# Altium schematic symbol library SAM3X-EK_REVB_Library.SchLib: 99 symbols
Pins are listed as number, name and electrical type; pins without a type are passive.

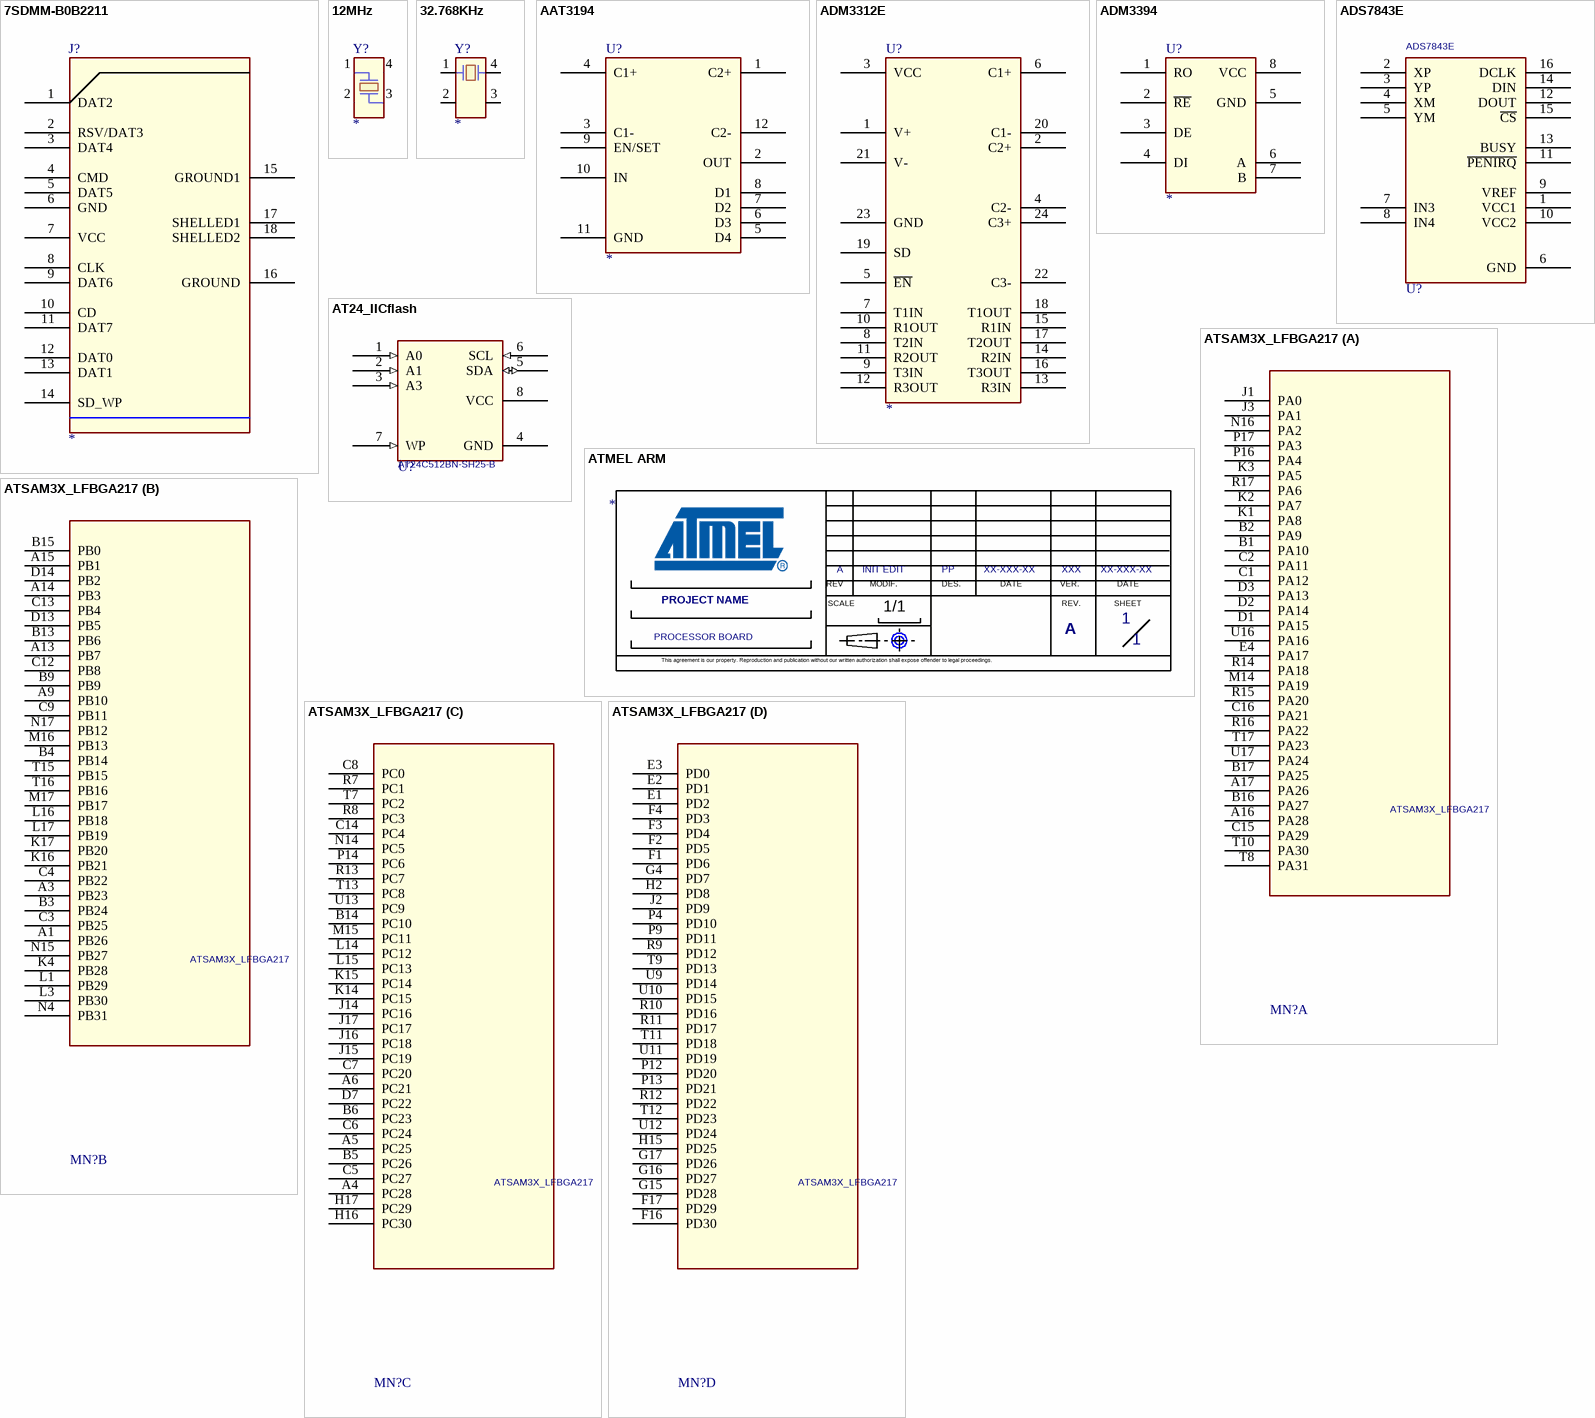
[diagram p0: symbols 7SDMM-B0B2211 to ATSAM3X_LFBGA217]

## 7SDMM-B0B2211
designator J?
pins: 1 DAT2, 2 RSV/DAT3, 3 DAT4, 4 CMD, 5 DAT5, 6 GND, 7 VCC, 8 CLK, 9 DAT6, 10 CD, 11 DAT7, 12 DAT0, 13 DAT1, 14 SD_WP, 15 GROUND1, 16 GROUND, 17 SHELLED1, 18 SHELLED2

## 12MHz
designator Y?
footprint Y6035
pins: 1, 2, 3, 4

## 32.768KHz
designator Y?
pins: 1, 2, 3, 4

## AAT3194
designator U?
pins: 1 C2+, 2 OUT, 3 C1-, 4 C1+, 5 D4, 6 D3, 7 D2, 8 D1, 9 EN/SET, 10 IN, 11 GND, 12 C2-

## ADM3312E
designator U?
pins: 1 V+, 2 C2+, 3 VCC, 4 C2-, 5 ~{EN}, 6 C1+, 7 T1IN, 8 T2IN, 9 T3IN, 10 R1OUT, 11 R2OUT, 12 R3OUT, 13 R3IN, 14 R2IN, 15 R1IN, 16 T3OUT, 17 T2OUT, 18 T1OUT, 19 SD, 20 C1-, 21 V-, 22 C3-, 23 GND, 24 C3+

## ADM3394
designator U?
pins: 1 RO, 2 ~{RE}, 3 DE, 4 DI, 5 GND, 6 A, 7 B, 8 VCC

## ADS7843E
designator U?
pins: 1 VCC1 (power), 2 XP, 3 YP, 4 XM, 5 YM, 6 GND, 7 IN3, 8 IN4, 9 VREF, 10 VCC2 (power), 11 ~{PENIRQ}, 12 DOUT, 13 BUSY, 14 DIN, 15 ~{CS}, 16 DCLK

## AT24_IICflash
designator U?, comment AT24C512BN-SH25-B
pins: 1 A0 (in), 2 A1 (in), 3 A3 (in), 4 GND (power), 5 SDA (io), 6 SCL (in), 7 WP (in), 8 VCC (power)

## ATMEL ARM
designator *  SHEET NAME 1: PROCESSOR BOARD  VERIF A: XXX  VERIF DATE A: XX-XXX-XX  REV: A  Page Count: 1  DES A: PP  BOARD NAME: PROJECT NAME  MODIF. DESCRIBE: INIT EDIT  (graphical)
REV D: D; REV C: C; REV B: B; REV F: F; REV E: E; VERIF F: XXX; VERIF E: XXX; VERIF D: XXX; VERIF C: XXX; VERIF B: XXX; VERIF DATE F: XX-XXX-XX; VERIF DATE E: XX-XXX-XX; VERIF DATE D: XX-XXX-XX; VERIF DATE C: XX-XXX-XX; VERIF DATE B: XX-XXX-XX; FT: ?; Page Number: 1; Page Size: A; Page Create Date: june 19, 2004; DATE A: XX-XXX-XX; DATE B: XX-XXX-XX; DATE C: XX-XXX-XX; DATE D: XX-XXX-XX; DATE E: XX-XXX-XX; DATE F: XX-XXX-XX; DES E: XXX; DES F: XXX; DES B: XXX; DES C: XXX; DES D: XXX; VERSION: A
text: REV; MODIF.; DES.; DATE; VER.; SCALE; REV.; SHEET; 1/1; This agreement is our property. Reproduction and publication without our written authorization shall expose offender to legal proceedings.

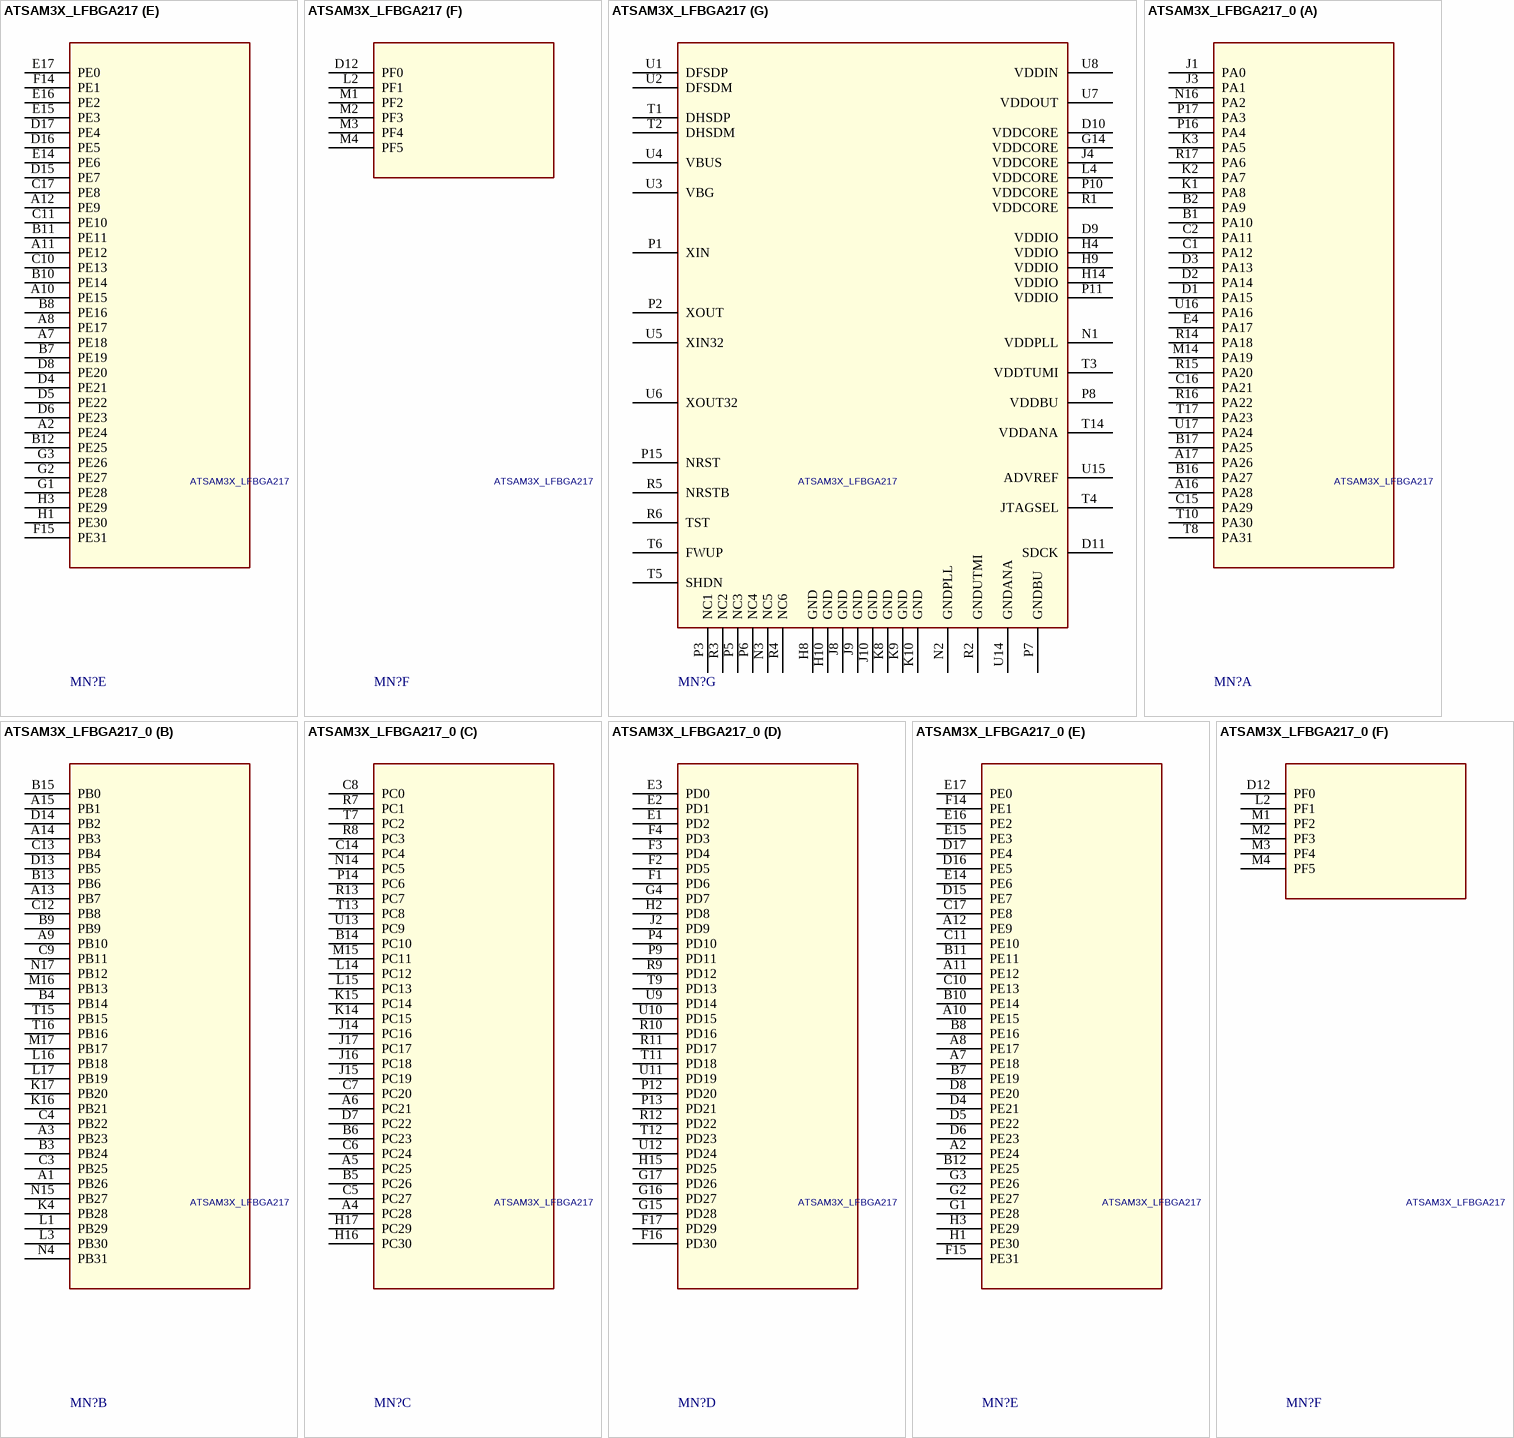
[diagram p1: symbols ATSAM3X_LFBGA217 to ATSAM3X_LFBGA217_0]

## ATSAM3X_LFBGA217
designator MN?
footprint LFBGA217
part A pins: A16 PA28, A17 PA26, B1 PA10, B2 PA9, B16 PA27, B17 PA25, C1 PA12, C2 PA11, C15 PA29, C16 PA21, D1 PA15, D2 PA14, D3 PA13, E4 PA17, J1 PA0, J3 PA1, K1 PA8, K2 PA7, K3 PA5, M14 PA19, N16 PA2, P16 PA4, P17 PA3, R14 PA18, R15 PA20, R16 PA22, R17 PA6, T8 PA31, T10 PA30, T17 PA23, U16 PA16, U17 PA24
part B pins: A1 PB26, A3 PB23, A9 PB10, A13 PB7, A14 PB3, A15 PB1, B3 PB24, B4 PB14, B9 PB9, B13 PB6, B15 PB0, C3 PB25, C4 PB22, C9 PB11, C12 PB8, C13 PB4, D13 PB5, D14 PB2, K4 PB28, K16 PB21, K17 PB20, L1 PB29, L3 PB30, L16 PB18, L17 PB19, M16 PB13, M17 PB17, N4 PB31, N15 PB27, N17 PB12, T15 PB15, T16 PB16
part C pins: A4 PC28, A5 PC25, A6 PC21, B5 PC26, B6 PC23, B14 PC10, C5 PC27, C6 PC24, C7 PC20, C8 PC0, C14 PC4, D7 PC22, H16 PC30, H17 PC29, J14 PC16, J15 PC19, J16 PC18, J17 PC17, K14 PC15, K15 PC14, L14 PC12, L15 PC13, M15 PC11, N14 PC5, P14 PC6, R7 PC1, R8 PC3, R13 PC7, T7 PC2, T13 PC8, U13 PC9
part D pins: E1 PD2, E2 PD1, E3 PD0, F1 PD6, F2 PD5, F3 PD4, F4 PD3, F16 PD30, F17 PD29, G4 PD7, G15 PD28, G16 PD27, G17 PD26, H2 PD8, H15 PD25, J2 PD9, P4 PD10, P9 PD11, P12 PD20, P13 PD21, R9 PD12, R10 PD16, R11 PD17, R12 PD22, T9 PD13, T11 PD18, T12 PD23, U9 PD14, U10 PD15, U11 PD19, U12 PD24
part E pins: A2 PE24, A7 PE18, A8 PE17, A10 PE15, A11 PE12, A12 PE9, B7 PE19, B8 PE16, B10 PE14, B11 PE11, B12 PE25, C10 PE13, C11 PE10, C17 PE8, D4 PE21, D5 PE22, D6 PE23, D8 PE20, D15 PE7, D16 PE5, D17 PE4, E14 PE6, E15 PE3, E16 PE2, E17 PE0, F14 PE1, F15 PE31, G1 PE28, G2 PE27, G3 PE26, H1 PE30, H3 PE29
part F pins: D12 PF0, L2 PF1, M1 PF2, M2 PF3, M3 PF4, M4 PF5
part G pins: D9 VDDIO (power), D10 VDDCORE (power), D11 SDCK, G14 VDDCORE (power), H4 VDDIO (power), H8 GND (power), H9 VDDIO (power), H10 GND (power), H14 VDDIO (power), J4 VDDCORE (power), J8 GND (power), J9 GND (power), J10 GND (power), K8 GND (power), K9 GND (power), K10 GND (power), L4 VDDCORE (power), N1 VDDPLL, N2 GNDPLL, N3 NC5, P1 XIN, P2 XOUT, P3 NC1, P5 NC3, P6 NC4, P7 GNDBU (power), P8 VDDBU (power), P10 VDDCORE (power), P11 VDDIO (power), P15 NRST, R1 VDDCORE (power), R2 GNDUTMI, R3 NC2, R4 NC6, R5 NRSTB, R6 TST, T1 DHSDP, T2 DHSDM, T3 VDDTUMI (power), T4 JTAGSEL, T5 SHDN, T6 FWUP, T14 VDDANA, U1 DFSDP, U2 DFSDM, U3 VBG, U4 VBUS, U5 XIN32, U6 XOUT32, U7 VDDOUT, U8 VDDIN, U14 GNDANA, U15 ADVREF

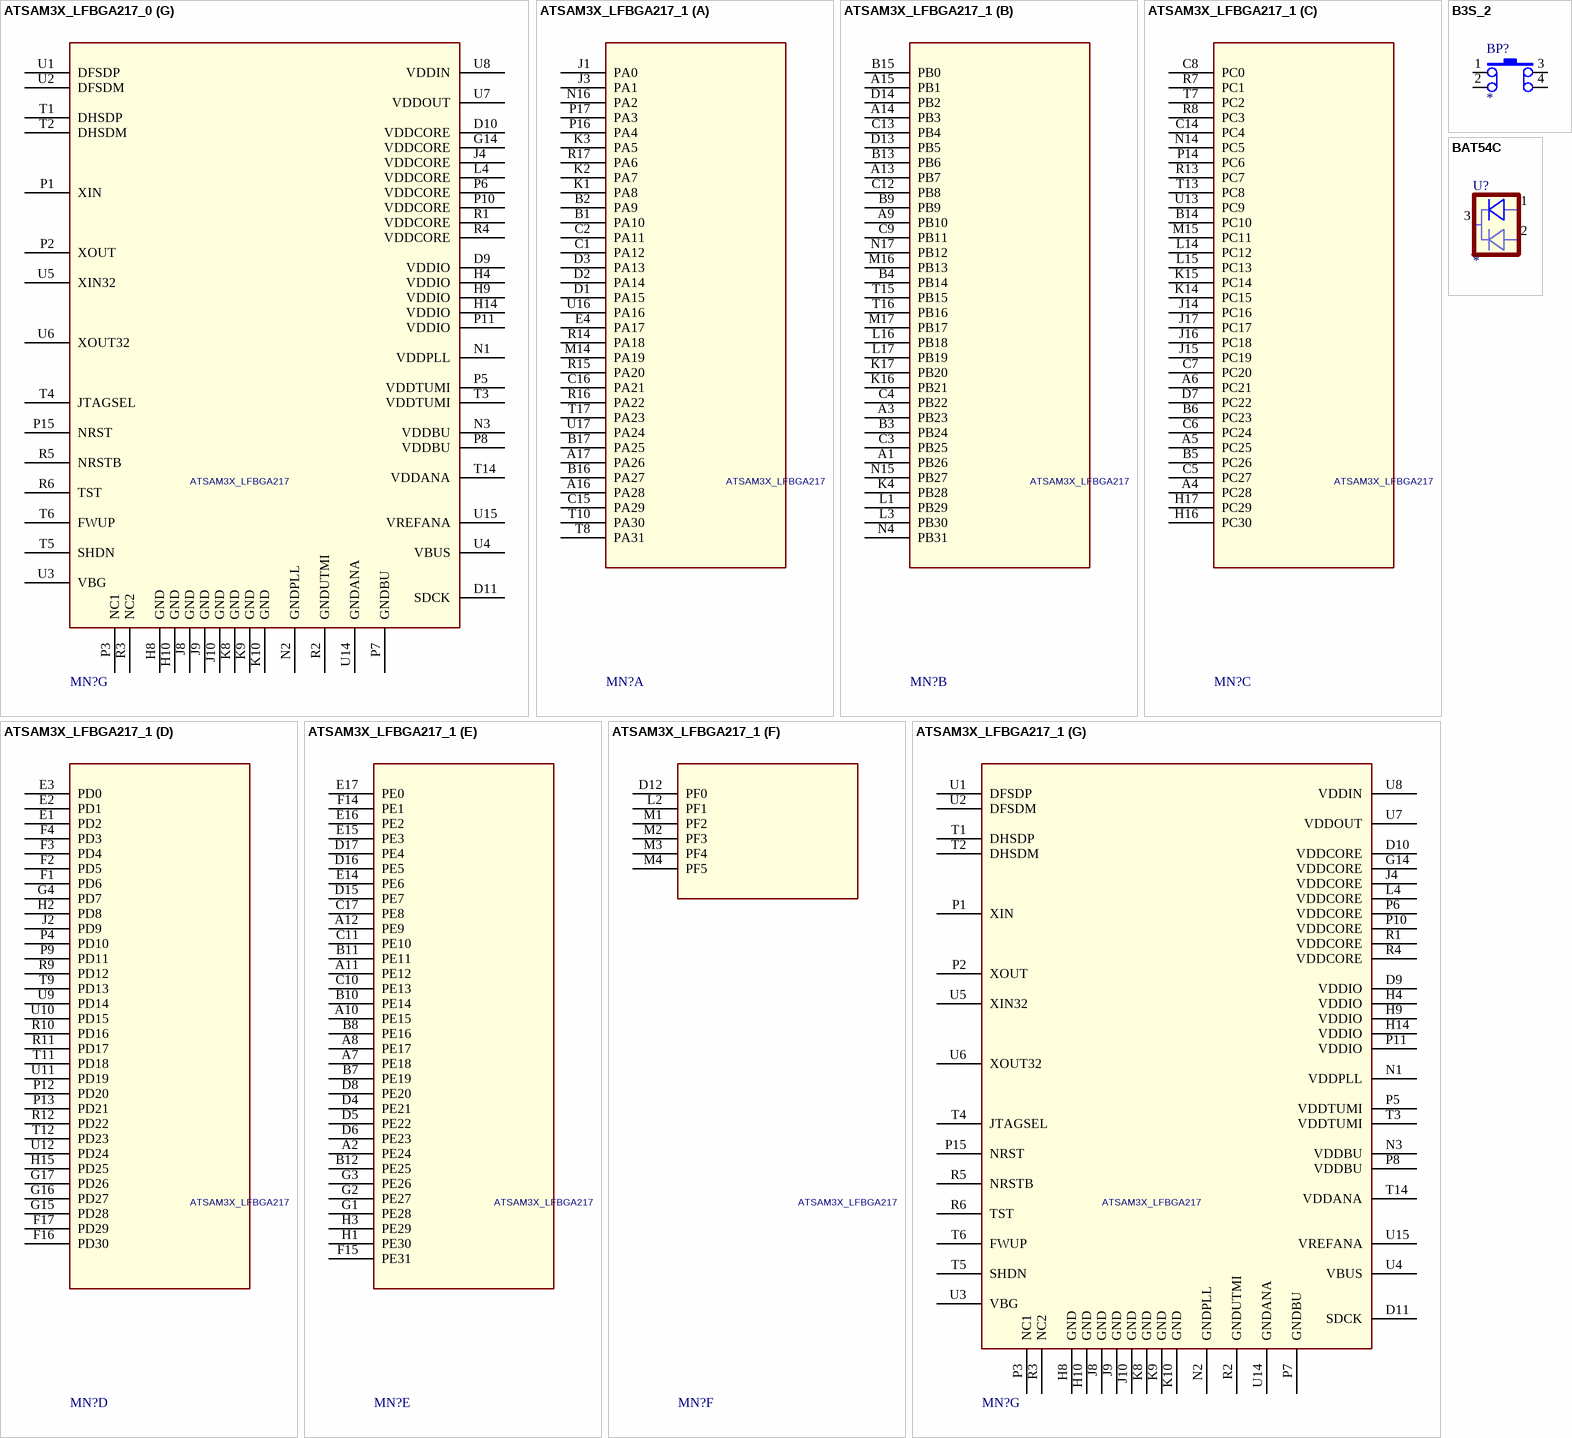
[diagram p2: symbols ATSAM3X_LFBGA217_0 to BAT54C]

## ATSAM3X_LFBGA217_0
designator MN?, comment ATSAM3X_LFBGA217
footprint LFBGA217
part A pins: A16 PA28, A17 PA26, B1 PA10, B2 PA9, B16 PA27, B17 PA25, C1 PA12, C2 PA11, C15 PA29, C16 PA21, D1 PA15, D2 PA14, D3 PA13, E4 PA17, J1 PA0, J3 PA1, K1 PA8, K2 PA7, K3 PA5, M14 PA19, N16 PA2, P16 PA4, P17 PA3, R14 PA18, R15 PA20, R16 PA22, R17 PA6, T8 PA31, T10 PA30, T17 PA23, U16 PA16, U17 PA24
part B pins: A1 PB26, A3 PB23, A9 PB10, A13 PB7, A14 PB3, A15 PB1, B3 PB24, B4 PB14, B9 PB9, B13 PB6, B15 PB0, C3 PB25, C4 PB22, C9 PB11, C12 PB8, C13 PB4, D13 PB5, D14 PB2, K4 PB28, K16 PB21, K17 PB20, L1 PB29, L3 PB30, L16 PB18, L17 PB19, M16 PB13, M17 PB17, N4 PB31, N15 PB27, N17 PB12, T15 PB15, T16 PB16
part C pins: A4 PC28, A5 PC25, A6 PC21, B5 PC26, B6 PC23, B14 PC10, C5 PC27, C6 PC24, C7 PC20, C8 PC0, C14 PC4, D7 PC22, H16 PC30, H17 PC29, J14 PC16, J15 PC19, J16 PC18, J17 PC17, K14 PC15, K15 PC14, L14 PC12, L15 PC13, M15 PC11, N14 PC5, P14 PC6, R7 PC1, R8 PC3, R13 PC7, T7 PC2, T13 PC8, U13 PC9
part D pins: E1 PD2, E2 PD1, E3 PD0, F1 PD6, F2 PD5, F3 PD4, F4 PD3, F16 PD30, F17 PD29, G4 PD7, G15 PD28, G16 PD27, G17 PD26, H2 PD8, H15 PD25, J2 PD9, P4 PD10, P9 PD11, P12 PD20, P13 PD21, R9 PD12, R10 PD16, R11 PD17, R12 PD22, T9 PD13, T11 PD18, T12 PD23, U9 PD14, U10 PD15, U11 PD19, U12 PD24
part E pins: A2 PE24, A7 PE18, A8 PE17, A10 PE15, A11 PE12, A12 PE9, B7 PE19, B8 PE16, B10 PE14, B11 PE11, B12 PE25, C10 PE13, C11 PE10, C17 PE8, D4 PE21, D5 PE22, D6 PE23, D8 PE20, D15 PE7, D16 PE5, D17 PE4, E14 PE6, E15 PE3, E16 PE2, E17 PE0, F14 PE1, F15 PE31, G1 PE28, G2 PE27, G3 PE26, H1 PE30, H3 PE29
part F pins: D12 PF0, L2 PF1, M1 PF2, M2 PF3, M3 PF4, M4 PF5
part G pins: D9 VDDIO (power), D10 VDDCORE (power), D11 SDCK, G14 VDDCORE (power), H4 VDDIO (power), H8 GND (power), H9 VDDIO (power), H10 GND (power), H14 VDDIO (power), J4 VDDCORE (power), J8 GND (power), J9 GND (power), J10 GND (power), K8 GND (power), K9 GND (power), K10 GND (power), L4 VDDCORE (power), N1 VDDPLL, N2 GNDPLL, N3 VDDBU (power), P1 XIN, P2 XOUT, P3 NC1, P5 VDDTUMI (power), P6 VDDCORE (power), P7 GNDBU (power), P8 VDDBU (power), P10 VDDCORE (power), P11 VDDIO (power), P15 NRST, R1 VDDCORE (power), R2 GNDUTMI, R3 NC2, R4 VDDCORE (power), R5 NRSTB, R6 TST, T1 DHSDP, T2 DHSDM, T3 VDDTUMI (power), T4 JTAGSEL, T5 SHDN, T6 FWUP, T14 VDDANA, U1 DFSDP, U2 DFSDM, U3 VBG, U4 VBUS, U5 XIN32, U6 XOUT32, U7 VDDOUT, U8 VDDIN, U14 GNDANA, U15 VREFANA

## ATSAM3X_LFBGA217_1
designator MN?, comment ATSAM3X_LFBGA217
footprint LFBGA217
part A pins: A16 PA28, A17 PA26, B1 PA10, B2 PA9, B16 PA27, B17 PA25, C1 PA12, C2 PA11, C15 PA29, C16 PA21, D1 PA15, D2 PA14, D3 PA13, E4 PA17, J1 PA0, J3 PA1, K1 PA8, K2 PA7, K3 PA5, M14 PA19, N16 PA2, P16 PA4, P17 PA3, R14 PA18, R15 PA20, R16 PA22, R17 PA6, T8 PA31, T10 PA30, T17 PA23, U16 PA16, U17 PA24
part B pins: A1 PB26, A3 PB23, A9 PB10, A13 PB7, A14 PB3, A15 PB1, B3 PB24, B4 PB14, B9 PB9, B13 PB6, B15 PB0, C3 PB25, C4 PB22, C9 PB11, C12 PB8, C13 PB4, D13 PB5, D14 PB2, K4 PB28, K16 PB21, K17 PB20, L1 PB29, L3 PB30, L16 PB18, L17 PB19, M16 PB13, M17 PB17, N4 PB31, N15 PB27, N17 PB12, T15 PB15, T16 PB16
part C pins: A4 PC28, A5 PC25, A6 PC21, B5 PC26, B6 PC23, B14 PC10, C5 PC27, C6 PC24, C7 PC20, C8 PC0, C14 PC4, D7 PC22, H16 PC30, H17 PC29, J14 PC16, J15 PC19, J16 PC18, J17 PC17, K14 PC15, K15 PC14, L14 PC12, L15 PC13, M15 PC11, N14 PC5, P14 PC6, R7 PC1, R8 PC3, R13 PC7, T7 PC2, T13 PC8, U13 PC9
part D pins: E1 PD2, E2 PD1, E3 PD0, F1 PD6, F2 PD5, F3 PD4, F4 PD3, F16 PD30, F17 PD29, G4 PD7, G15 PD28, G16 PD27, G17 PD26, H2 PD8, H15 PD25, J2 PD9, P4 PD10, P9 PD11, P12 PD20, P13 PD21, R9 PD12, R10 PD16, R11 PD17, R12 PD22, T9 PD13, T11 PD18, T12 PD23, U9 PD14, U10 PD15, U11 PD19, U12 PD24
part E pins: A2 PE24, A7 PE18, A8 PE17, A10 PE15, A11 PE12, A12 PE9, B7 PE19, B8 PE16, B10 PE14, B11 PE11, B12 PE25, C10 PE13, C11 PE10, C17 PE8, D4 PE21, D5 PE22, D6 PE23, D8 PE20, D15 PE7, D16 PE5, D17 PE4, E14 PE6, E15 PE3, E16 PE2, E17 PE0, F14 PE1, F15 PE31, G1 PE28, G2 PE27, G3 PE26, H1 PE30, H3 PE29
part F pins: D12 PF0, L2 PF1, M1 PF2, M2 PF3, M3 PF4, M4 PF5
part G pins: D9 VDDIO (power), D10 VDDCORE (power), D11 SDCK, G14 VDDCORE (power), H4 VDDIO (power), H8 GND (power), H9 VDDIO (power), H10 GND (power), H14 VDDIO (power), J4 VDDCORE (power), J8 GND (power), J9 GND (power), J10 GND (power), K8 GND (power), K9 GND (power), K10 GND (power), L4 VDDCORE (power), N1 VDDPLL, N2 GNDPLL, N3 VDDBU (power), P1 XIN, P2 XOUT, P3 NC1, P5 VDDTUMI (power), P6 VDDCORE (power), P7 GNDBU (power), P8 VDDBU (power), P10 VDDCORE (power), P11 VDDIO (power), P15 NRST, R1 VDDCORE (power), R2 GNDUTMI, R3 NC2, R4 VDDCORE (power), R5 NRSTB, R6 TST, T1 DHSDP, T2 DHSDM, T3 VDDTUMI (power), T4 JTAGSEL, T5 SHDN, T6 FWUP, T14 VDDANA, U1 DFSDP, U2 DFSDM, U3 VBG, U4 VBUS, U5 XIN32, U6 XOUT32, U7 VDDOUT, U8 VDDIN, U14 GNDANA, U15 VREFANA

## B3S_2
designator BP?
VAL: B3S-1000; DEV: SWS_B3S_01; FAB: OMRON; BOI: L=6 l=6 H=4.3; DESIG: Sealed surface mount tactile switch; REF: B3S-1000
pins: 1 T1, 2 T2, 3 T3, 4 T4

## BAT54C
designator U?
pins: 1 K, 2 A, 3 COM

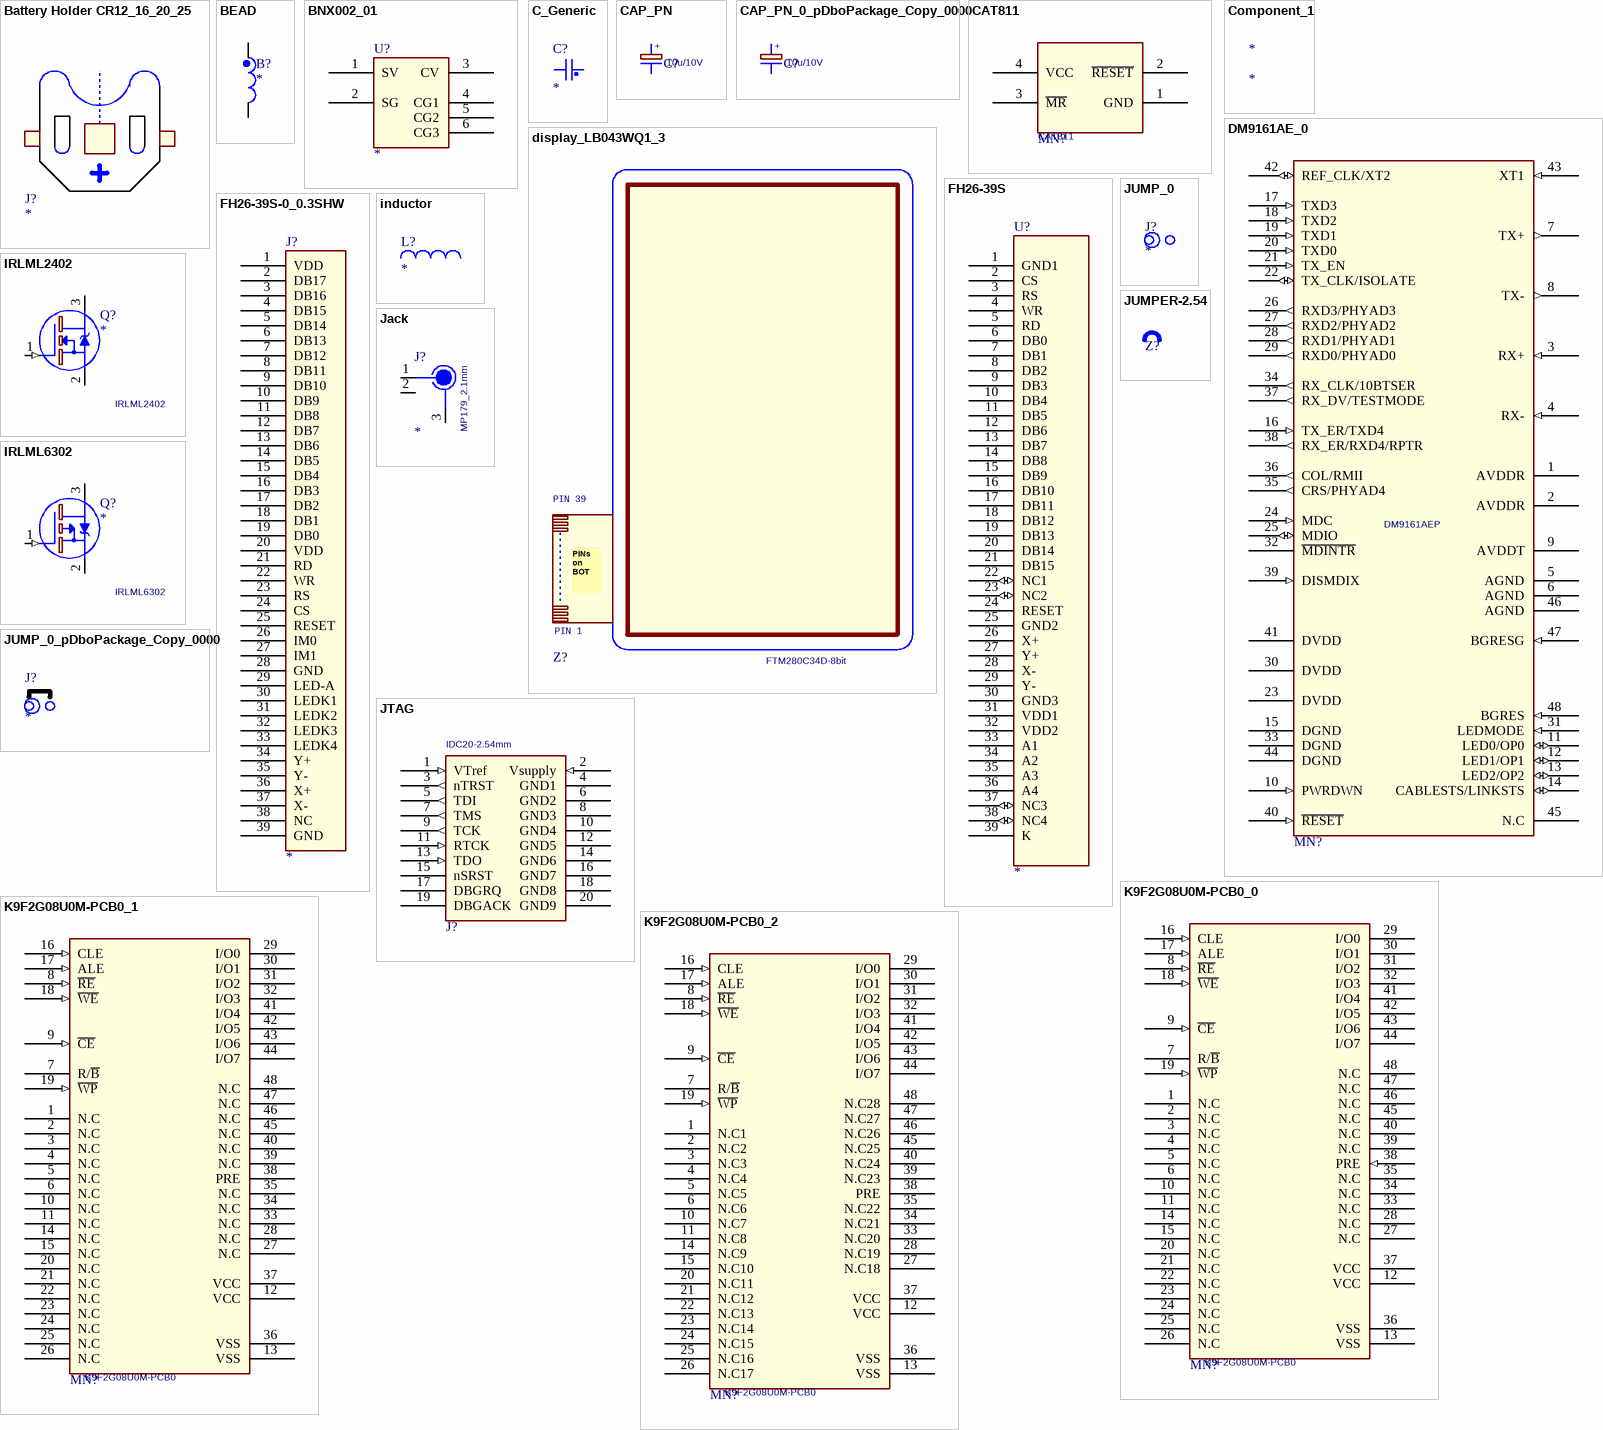
[diagram p3: symbols Battery Holder CR12_16_20_25 to K9F2G08U0M-PCB0_2]

## Battery Holder CR12_16_20_25
designator J?
pins: 1 M, 2 P1, 3 P2

## BEAD
designator B?
pins: 1, 2

## BNX002_01
designator U?
pins: 1 SV, 2 SG, 3 CV, 4 CG1, 5 CG2, 6 CG3

## C_Generic
designator C?
footprint CAP0805
pins: 1, 2

## CAP_PN
designator C?, comment 10u/10V
SDTSourceLibName: C:\WINDOWS\TEMP\SNDS.LIB
pins: 1, 2
text: +

## CAP_PN_0_pDboPackage_Copy_0000
designator C?, comment 10u/10V
SDTSourceLibName: C:\WINDOWS\TEMP\SNDS.LIB
pins: 1, 2
text: +

## CAT811
designator MN?
FAB: ON; REF: CAT811; VAL: CAT811
footprint SOT143
pins: 1 GND, 2 ~{RESET}, 3 ~{MR}, 4 VCC

## Component_1
designator *

## display_LB043WQ1_3
designator Z?, comment VAL: FTM280C34D-8bit  (hidden comment: LB043WQ1)
text: PIN 39; PINs / on / BOT; PIN 1

## DM9161AE_0
designator MN?, comment DM9161AEP
DESIG: 10/100 Fast Ethernet Tranceiver MII/RMII Auto MDIX; BOI: LQFP48; FAB: DAVICOM; DEV: QFP48_01; RoHS: YES; REF: DM9161AEP; VAL: DM9161AEP
pins: 1 AVDDR (power), 2 AVDDR (power), 3 RX+ (in), 4 RX- (in), 5 AGND (power), 6 AGND (power), 7 TX+ (out), 8 TX- (out), 9 AVDDT (power), 10 PWRDWN (in), 11 LED0/OP0 (io), 12 LED1/OP1 (io), 13 LED2/OP2 (io), 14 CABLESTS/LINKSTS (io), 15 DGND (power), 16 TX_ER/TXD4 (in), 17 TXD3 (in), 18 TXD2 (in), 19 TXD1 (in), 20 TXD0 (in), 21 TX_EN (in), 22 TX_CLK/ISOLATE (io), 23 DVDD (power), 24 MDC (in), 25 MDIO (io), 26 RXD3/PHYAD3 (out), 27 RXD2/PHYAD2 (out), 28 RXD1/PHYAD1 (out), 29 RXD0/PHYAD0 (out), 30 DVDD (power), 31 LEDMODE (in), 32 ~{MDINTR} (hiz), 33 DGND (power), 34 RX_CLK/10BTSER (out), 35 CRS/PHYAD4 (out), 36 COL/RMII (out), 37 RX_DV/TESTMODE (out), 38 RX_ER/RXD4/RPTR (out), 39 DISMDIX (in), 40 ~{RESET} (in), 41 DVDD (power), 42 REF_CLK/XT2 (io), 43 XT1 (in), 44 DGND (power), 45 N.C, 46 AGND (power), 47 BGRESG (in), 48 BGRES (in)

## FH26-39S
designator U?
pins: 1 GND1 (power), 2 CS, 3 RS, 4 WR, 5 RD, 6 DB0, 7 DB1, 8 DB2, 9 DB3, 10 DB4, 11 DB5, 12 DB6, 13 DB7, 14 DB8, 15 DB9, 16 DB10, 17 DB11, 18 DB12, 19 DB13, 20 DB14, 21 DB15, 22 NC1 (io), 23 NC2 (io), 24 RESET, 25 GND2 (power), 26 X+, 27 Y+, 28 X-, 29 Y-, 30 GND3 (power), 31 VDD1, 32 VDD2, 33 A1, 34 A2, 35 A3, 36 A4, 37 NC3 (io), 38 NC4 (io), 39 K

## FH26-39S-0_0.3SHW
designator J?
pins: 1 VDD (power), 2 DB17, 3 DB16, 4 DB15, 5 DB14, 6 DB13, 7 DB12, 8 DB11, 9 DB10, 10 DB9, 11 DB8, 12 DB7, 13 DB6, 14 DB5, 15 DB4, 16 DB3, 17 DB2, 18 DB1, 19 DB0, 20 VDD (power), 21 RD, 22 WR, 23 RS, 24 CS, 25 RESET, 26 IM0, 27 IM1, 28 GND (power), 29 LED-A, 30 LEDK1, 31 LEDK2, 32 LEDK3, 33 LEDK4, 34 Y+, 35 Y-, 36 X+, 37 X-, 38 NC, 39 GND (power)

## inductor
designator L?
footprint LC1206
pins: 1, 2

## IRLML2402
designator Q?  VAL: IRLML2402
BOI: SOT23; DESIG: MOS N, 20V 0.95A, 0.25ohms; DEV: SOT23T02; FAB: IR; PUI: 0.4W; REF: IRLML2402
footprint SOT23T02
pins: 1 G (in), 2 S, 3 D (oc)

## IRLML6302
designator Q?  REF: IRLML6302
PUI: 0.4W; FAB: IR; DEV: SOT23T02; DESIG: MOS P, -20V 0.54A, 0.6 ohms; BOI: SOT23; VAL: IRLML6302
footprint SOT23T02
pins: 1 G (in), 2 S, 3 D (oc)

## Jack
designator J?  VAL: MP179_2.1mm
DEV: CONNECT3PTS03; FAB: HIRSCHMAN; DESIG: 2.1mm Power PCB Connector; REF: MP179P; BOI: 2.1mmD
footprint CONNECT3PTS03
pins: 1, 2, 3

## JTAG
designator J?, comment IDC20-2.54mm
pins: 1 VTref (in), 2 Vsupply (in), 3 nTRST (out), 4 GND1 (power), 5 TDI (out), 6 GND2 (power), 7 TMS (out), 8 GND3 (power), 9 TCK (out), 10 GND4 (power), 11 RTCK (in), 12 GND5 (power), 13 TDO (in), 14 GND6 (power), 15 nSRST, 16 GND7 (power), 17 DBGRQ, 18 GND8 (power), 19 DBGACK, 20 GND9 (power)

## JUMP_0
designator J?
pins: 1, 2

## JUMP_0_pDboPackage_Copy_0000
designator J?
pins: 1, 2

## JUMPER-2.54
designator Z?, comment JUMPER 2.54  (value not drawn)
FAB: NA; DESIG: 2 POINTS JUMPER PITCH 2.54; REF: JUMPER 2.54; VAL: JUMPER 2.54; BOI: NA

## K9F2G08U0M-PCB0_0
designator MN?, comment K9F2G08U0M-PCB0
DEV: CIS_TSOP48_01; FAB: SAMSUNG; BOI: TSOP48; DESIG: NANDFLASH; TEN: 2,7..3,6V; RoHS: YES; REF: K9F2G08U0M-PCB0; VAL: K9F2G08U0M-PCB0
pins: 1 N.C, 2 N.C, 3 N.C, 4 N.C, 5 N.C, 6 N.C, 7 R/~{B} (oc), 8 ~{RE} (in), 9 ~{CE} (in), 10 N.C, 11 N.C, 12 VCC (power), 13 VSS (power), 14 N.C, 15 N.C, 16 CLE (in), 17 ALE (in), 18 ~{WE} (in), 19 ~{WP} (in), 20 N.C, 21 N.C, 22 N.C, 23 N.C, 24 N.C, 25 N.C, 26 N.C, 27 N.C, 28 N.C, 29 I/O0 (hiz), 30 I/O1 (hiz), 31 I/O2 (hiz), 32 I/O3 (hiz), 33 N.C, 34 N.C, 35 N.C, 36 VSS (power), 37 VCC (power), 38 PRE (in), 39 N.C, 40 N.C, 41 I/O4 (hiz), 42 I/O5 (hiz), 43 I/O6 (hiz), 44 I/O7 (hiz), 45 N.C, 46 N.C, 47 N.C, 48 N.C

## K9F2G08U0M-PCB0_1
designator MN?, comment K9F2G08U0M-PCB0
DEV: CIS_TSOP48_01; FAB: SAMSUNG; BOI: TSOP48; DESIG: NANDFLASH; TEN: 2,7..3,6V; RoHS: YES; REF: K9F2G08U0M-PCB0; VAL: K9F2G08U0M-PCB0
pins: 1 N.C (power), 2 N.C (power), 3 N.C (power), 4 N.C (power), 5 N.C (power), 6 N.C (power), 7 R/~{B} (oc), 8 ~{RE} (in), 9 ~{CE} (in), 10 N.C (power), 11 N.C (power), 12 VCC (power), 13 VSS (power), 14 N.C (power), 15 N.C (power), 16 CLE (in), 17 ALE (in), 18 ~{WE} (in), 19 ~{WP} (in), 20 N.C (power), 21 N.C (power), 22 N.C (power), 23 N.C (power), 24 N.C (power), 25 N.C (power), 26 N.C (power), 27 N.C (power), 28 N.C (power), 29 I/O0 (hiz), 30 I/O1 (hiz), 31 I/O2 (hiz), 32 I/O3 (hiz), 33 N.C (power), 34 N.C (power), 35 N.C (power), 36 VSS (power), 37 VCC (power), 38 PRE (power), 39 N.C (power), 40 N.C (power), 41 I/O4 (hiz), 42 I/O5 (hiz), 43 I/O6 (hiz), 44 I/O7 (hiz), 45 N.C (power), 46 N.C (power), 47 N.C (power), 48 N.C (power)

## K9F2G08U0M-PCB0_2
designator MN?, comment K9F2G08U0M-PCB0
TEN: 2,7..3,6V; DESIG: NANDFLASH; BOI: TSOP48; FAB: SAMSUNG; DEV: CIS_TSOP48_01; VAL: K9F2G08U0M-PCB0; REF: K9F2G08U0M-PCB0; RoHS: YES
pins: 1 N.C1, 2 N.C2, 3 N.C3, 4 N.C4, 5 N.C5, 6 N.C6, 7 R/~{B} (oc), 8 ~{RE} (in), 9 ~{CE} (in), 10 N.C7, 11 N.C8, 12 VCC (power), 13 VSS (power), 14 N.C9, 15 N.C10, 16 CLE (in), 17 ALE (in), 18 ~{WE} (in), 19 ~{WP} (in), 20 N.C11, 21 N.C12, 22 N.C13, 23 N.C14, 24 N.C15, 25 N.C16, 26 N.C17, 27 N.C18, 28 N.C19, 29 I/O0 (hiz), 30 I/O1 (hiz), 31 I/O2 (hiz), 32 I/O3 (hiz), 33 N.C20, 34 N.C21, 35 N.C22, 36 VSS (power), 37 VCC (power), 38 PRE (power), 39 N.C23, 40 N.C24, 41 I/O4 (hiz), 42 I/O5 (hiz), 43 I/O6 (hiz), 44 I/O7 (hiz), 45 N.C25, 46 N.C26, 47 N.C27, 48 N.C28

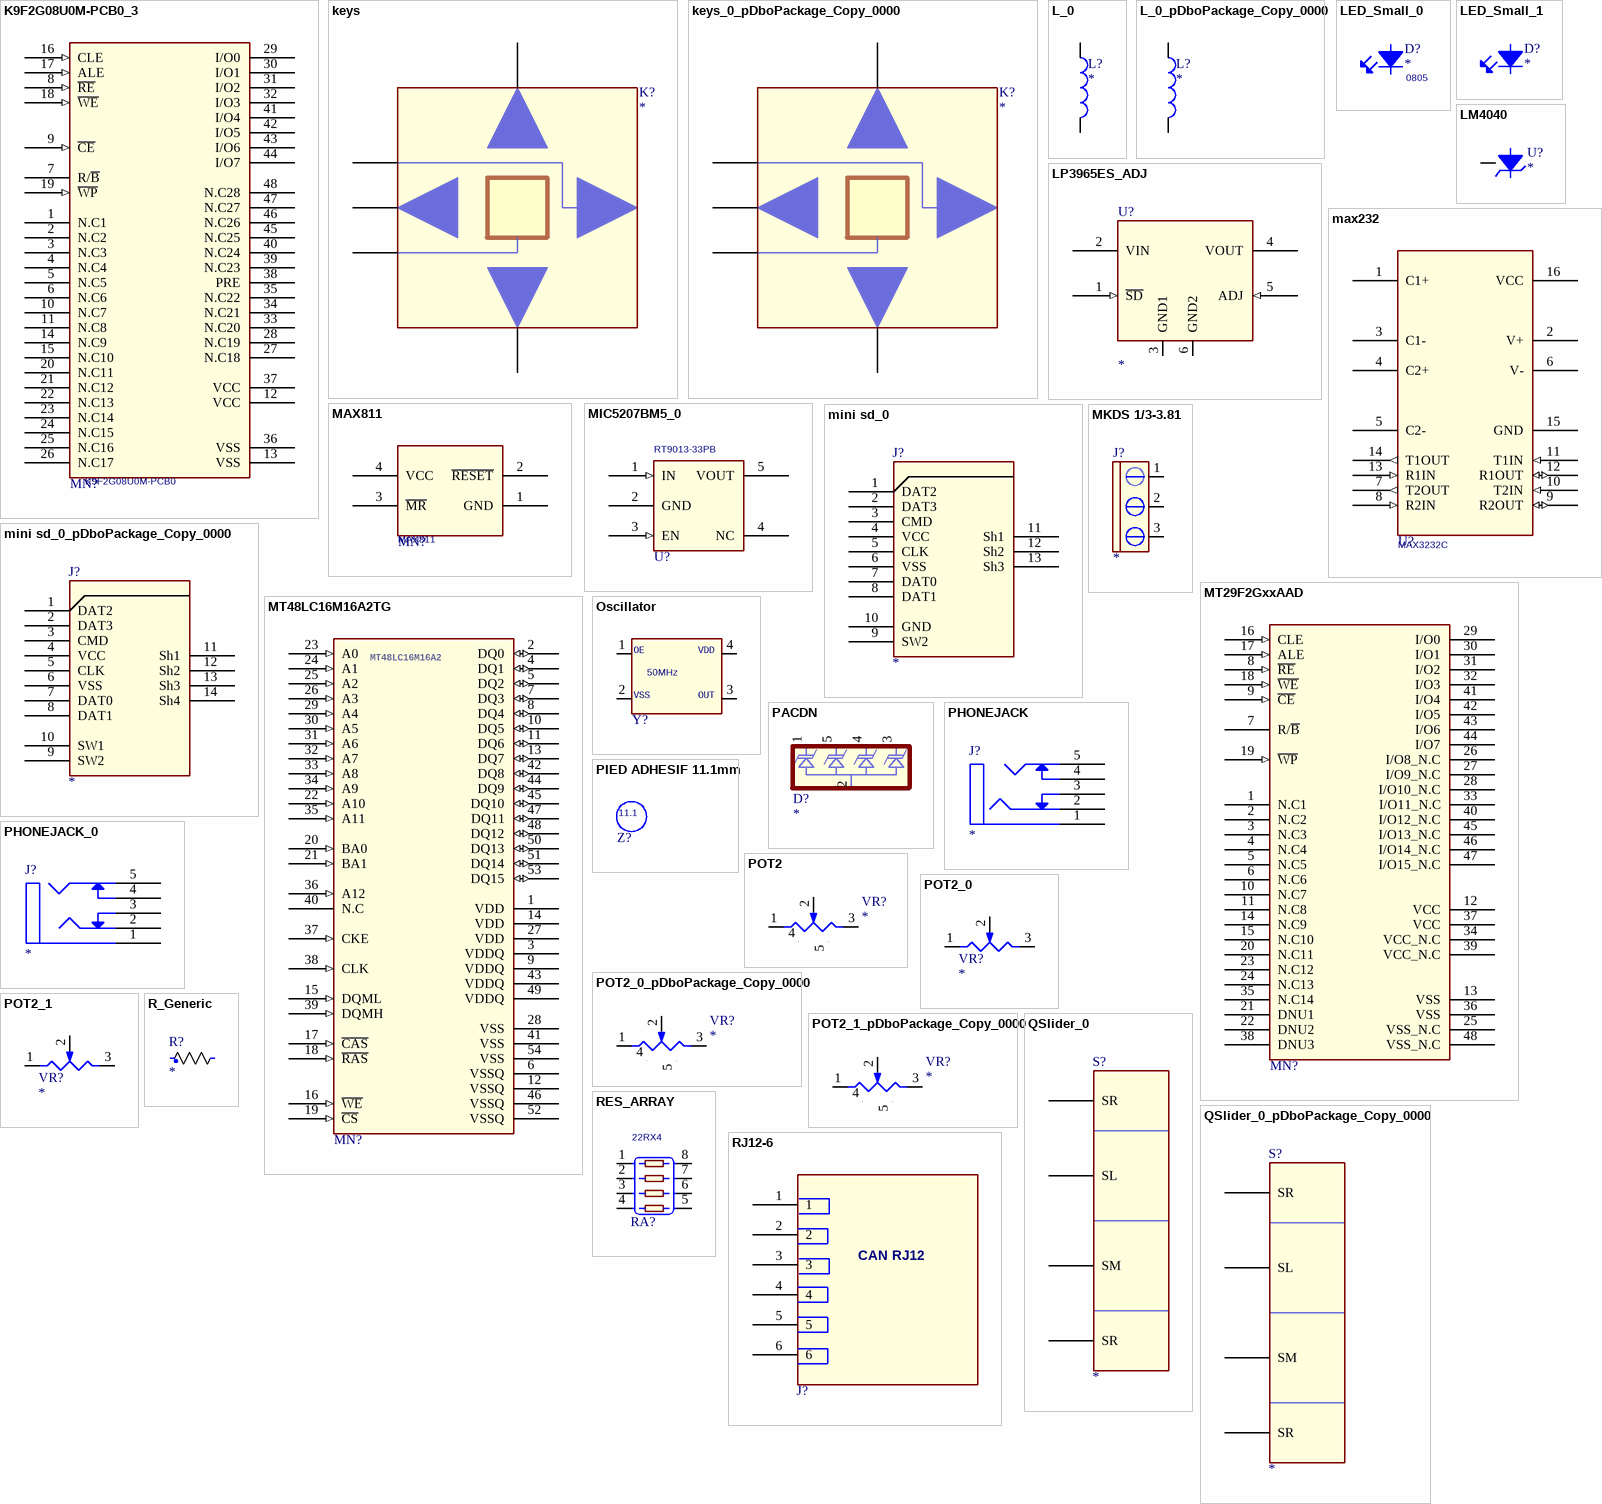
[diagram p4: symbols K9F2G08U0M-PCB0_3 to RJ12-6]

## K9F2G08U0M-PCB0_3
designator MN?, comment K9F2G08U0M-PCB0
TEN: 2,7..3,6V; DESIG: NANDFLASH; BOI: TSOP48; FAB: SAMSUNG; DEV: CIS_TSOP48_01; VAL: K9F2G08U0M-PCB0; REF: K9F2G08U0M-PCB0; RoHS: YES
pins: 1 N.C1, 2 N.C2, 3 N.C3, 4 N.C4, 5 N.C5, 6 N.C6, 7 R/~{B} (oc), 8 ~{RE} (in), 9 ~{CE} (in), 10 N.C7, 11 N.C8, 12 VCC (power), 13 VSS (power), 14 N.C9, 15 N.C10, 16 CLE (in), 17 ALE (in), 18 ~{WE} (in), 19 ~{WP} (in), 20 N.C11, 21 N.C12, 22 N.C13, 23 N.C14, 24 N.C15, 25 N.C16, 26 N.C17, 27 N.C18, 28 N.C19, 29 I/O0 (hiz), 30 I/O1 (hiz), 31 I/O2 (hiz), 32 I/O3 (hiz), 33 N.C20, 34 N.C21, 35 N.C22, 36 VSS (power), 37 VCC (power), 38 PRE, 39 N.C23, 40 N.C24, 41 I/O4 (hiz), 42 I/O5 (hiz), 43 I/O6 (hiz), 44 I/O7 (hiz), 45 N.C25, 46 N.C26, 47 N.C27, 48 N.C28

## keys
designator K?
pins: 1, 2, 3, 4, 5

## keys_0_pDboPackage_Copy_0000
designator K?
pins: 1, 2, 3, 4, 5

## L_0
designator L?
pins: 1, 2

## L_0_pDboPackage_Copy_0000
designator L?
pins: 1, 2

## LED_Small_0
designator D?  Note: 0805
pins: 1 A, 2 K

## LED_Small_1
designator D?
Note: 0805
pins: 1 A, 2 K

## LM4040
designator U?
Note: 0603
pins: 1 +, 2 -, 3 NC

## LP3965ES_ADJ
designator U?
footprint ADI/SM/TO263/5
pins: 1 ~{SD} (in), 2 VIN (power), 3 GND1 (power), 4 VOUT (power), 5 ADJ (in), 6 GND2 (power)

## max232
designator U?, comment MAX3232C
pins: 1 C1+, 2 V+, 3 C1-, 4 C2+, 5 C2-, 6 V-, 7 T2OUT (out), 8 R2IN (in), 9 R2OUT (io), 10 T2IN (in), 11 T1IN (in), 12 R1OUT (io), 13 R1IN (in), 14 T1OUT (out), 15 GND (power), 16 VCC (power)

## MAX811
designator MN?
FAB: MAXIM; REF: MAX811; VAL: MAX811
footprint SOT143
pins: 1 GND, 2 ~{RESET}, 3 ~{MR}, 4 VCC

## MIC5207BM5_0
designator U?, comment RT9013-33PB
pins: 1 IN (in), 2 GND (power), 3 EN (in), 4 NC, 5 VOUT

## mini sd_0
designator J?
pins: 1 DAT2, 2 DAT3, 3 CMD, 4 VCC, 5 CLK, 6 VSS, 7 DAT0, 8 DAT1, 9 SW2, 10 GND, 11 Sh1, 12 Sh2, 13 Sh3

## mini sd_0_pDboPackage_Copy_0000
designator J?
pins: 1 DAT2, 2 DAT3, 3 CMD, 4 VCC, 5 CLK, 6 VSS, 7 DAT0, 8 DAT1, 9 SW2, 10 SW1, 11 Sh1, 12 Sh2, 13 Sh3, 14 Sh4

## MKDS 1/3-3.81
designator J?
VAL: 3 Positions; FAB: PHOENIX CONTACT; BOI: Printed circuit terminal block; REF: MKDS 1/3-3.81; DESIG: 3 Positions, 3.81 mm pitch Printed circuit terminal block; DEV: TBT_MKDS1-3X3-81_01
pins: 1, 2, 3

## MT29F2GxxAAD
designator MN?, comment MT29F2G08AAD  (value not drawn)
DEV: CIS_TSOP48_01; FAB: Micron; BOI: TSOP48; DESIG: NANDFLASH; TEN: 2,7..3,6V; RoHS: YES
pins: 1 N.C1, 2 N.C2, 3 N.C3, 4 N.C4, 5 N.C5, 6 N.C6, 7 R/~{B} (oc), 8 ~{RE} (in), 9 ~{CE} (in), 10 N.C7, 11 N.C8, 12 VCC (power), 13 VSS (power), 14 N.C9, 15 N.C10, 16 CLE (in), 17 ALE (in), 18 ~{WE} (in), 19 ~{WP} (in), 20 N.C11, 21 DNU1, 22 DNU2, 23 N.C12, 24 N.C13, 25 VSS_N.C (power), 26 I/O8_N.C, 27 I/O9_N.C, 28 I/O10_N.C, 29 I/O0 (hiz), 30 I/O1 (hiz), 31 I/O2 (hiz), 32 I/O3 (hiz), 33 I/O11_N.C, 34 VCC_N.C (power), 35 N.C14, 36 VSS (power), 37 VCC (power), 38 DNU3, 39 VCC_N.C (power), 40 I/O12_N.C, 41 I/O4 (hiz), 42 I/O5 (hiz), 43 I/O6 (hiz), 44 I/O7 (hiz), 45 I/O13_N.C, 46 I/O14_N.C, 47 I/O15_N.C, 48 VSS_N.C (power)

## MT48LC16M16A2TG
designator MN?, comment MT48LC16M16A2TG-75  (value not drawn)
DESIG: SDRAM 4M x 16 x 4; BOI: TSOP54; FAB: MICRON; DEV: TSOP54_01; VAL: MT48LC16M16A2TG-75; REF: MT48LC16M16A2TG-75
footprint TSOP54_01
pins: 1 VDD (power), 2 DQ0 (io), 3 VDDQ (power), 4 DQ1 (io), 5 DQ2 (io), 6 VSSQ (power), 7 DQ3 (io), 8 DQ4 (io), 9 VDDQ (power), 10 DQ5 (io), 11 DQ6 (io), 12 VSSQ (power), 13 DQ7 (io), 14 VDD (power), 15 DQML (in), 16 ~{WE} (in), 17 ~{CAS} (in), 18 ~{RAS} (in), 19 ~{CS} (in), 20 BA0 (in), 21 BA1 (in), 22 A10 (in), 23 A0 (in), 24 A1 (in), 25 A2 (in), 26 A3 (in), 27 VDD (power), 28 VSS (power), 29 A4 (in), 30 A5 (in), 31 A6 (in), 32 A7 (in), 33 A8 (in), 34 A9 (in), 35 A11 (in), 36 A12 (in), 37 CKE (in), 38 CLK (in), 39 DQMH (in), 40 N.C, 41 VSS (power), 42 DQ8 (io), 43 VDDQ (power), 44 DQ9 (io), 45 DQ10 (io), 46 VSSQ (power), 47 DQ11 (io), 48 DQ12 (io), 49 VDDQ (power), 50 DQ13 (io), 51 DQ14 (io), 52 VSSQ (power), 53 DQ15 (io), 54 VSS (power)
text: MT48LC16M16A2

## Oscillator
designator Y?, comment 50MHz
pins: 1 OE, 2 VSS, 3 OUT, 4 VDD

## PACDN
designator D?
pins: 1 K1, 2 COM, 3 K2, 4 K3, 5 K4

## PHONEJACK
designator J?
pins: 1 E, 2 D, 3 C, 4 B, 5 A

## PHONEJACK_0
designator J?
pins: 1 E, 2 D, 3 C, 4 B, 5 A

## PIED ADHESIF 11.1mm
designator Z?, comment 11.1
VAL: RBS-2; DESIG: BUMPERS; BOI: NA; FAB: RICHCO; RoHS: YES; REF: RBS-2
footprint TM6CIR3_2

## POT2
designator VR?
pins: 1, 2, 3, 4, 5

## POT2_0
designator VR?
pins: 1, 2, 3

## POT2_0_pDboPackage_Copy_0000
designator VR?
pins: 1, 2, 3, 4, 5

## POT2_1
designator VR?
pins: 1, 2, 3

## POT2_1_pDboPackage_Copy_0000
designator VR?
pins: 1, 2, 3, 4, 5

## QSlider_0
designator S?
pins: 1 SR (power), 2 SL, 3 SM, 4 SR (power)

## QSlider_0_pDboPackage_Copy_0000
designator S?
pins: 1 SR, 2 SL, 3 SM, 4 SR

## R_Generic
designator R?
pins: 1, 2

## RES_ARRAY
designator RA?, comment 22RX4
footprint RESP4R
pins: 1, 2, 3, 4, 5, 6, 7, 8

## RJ12-6
designator J?, comment CAN RJ12
pins: 1, 2, 3, 4, 5, 6

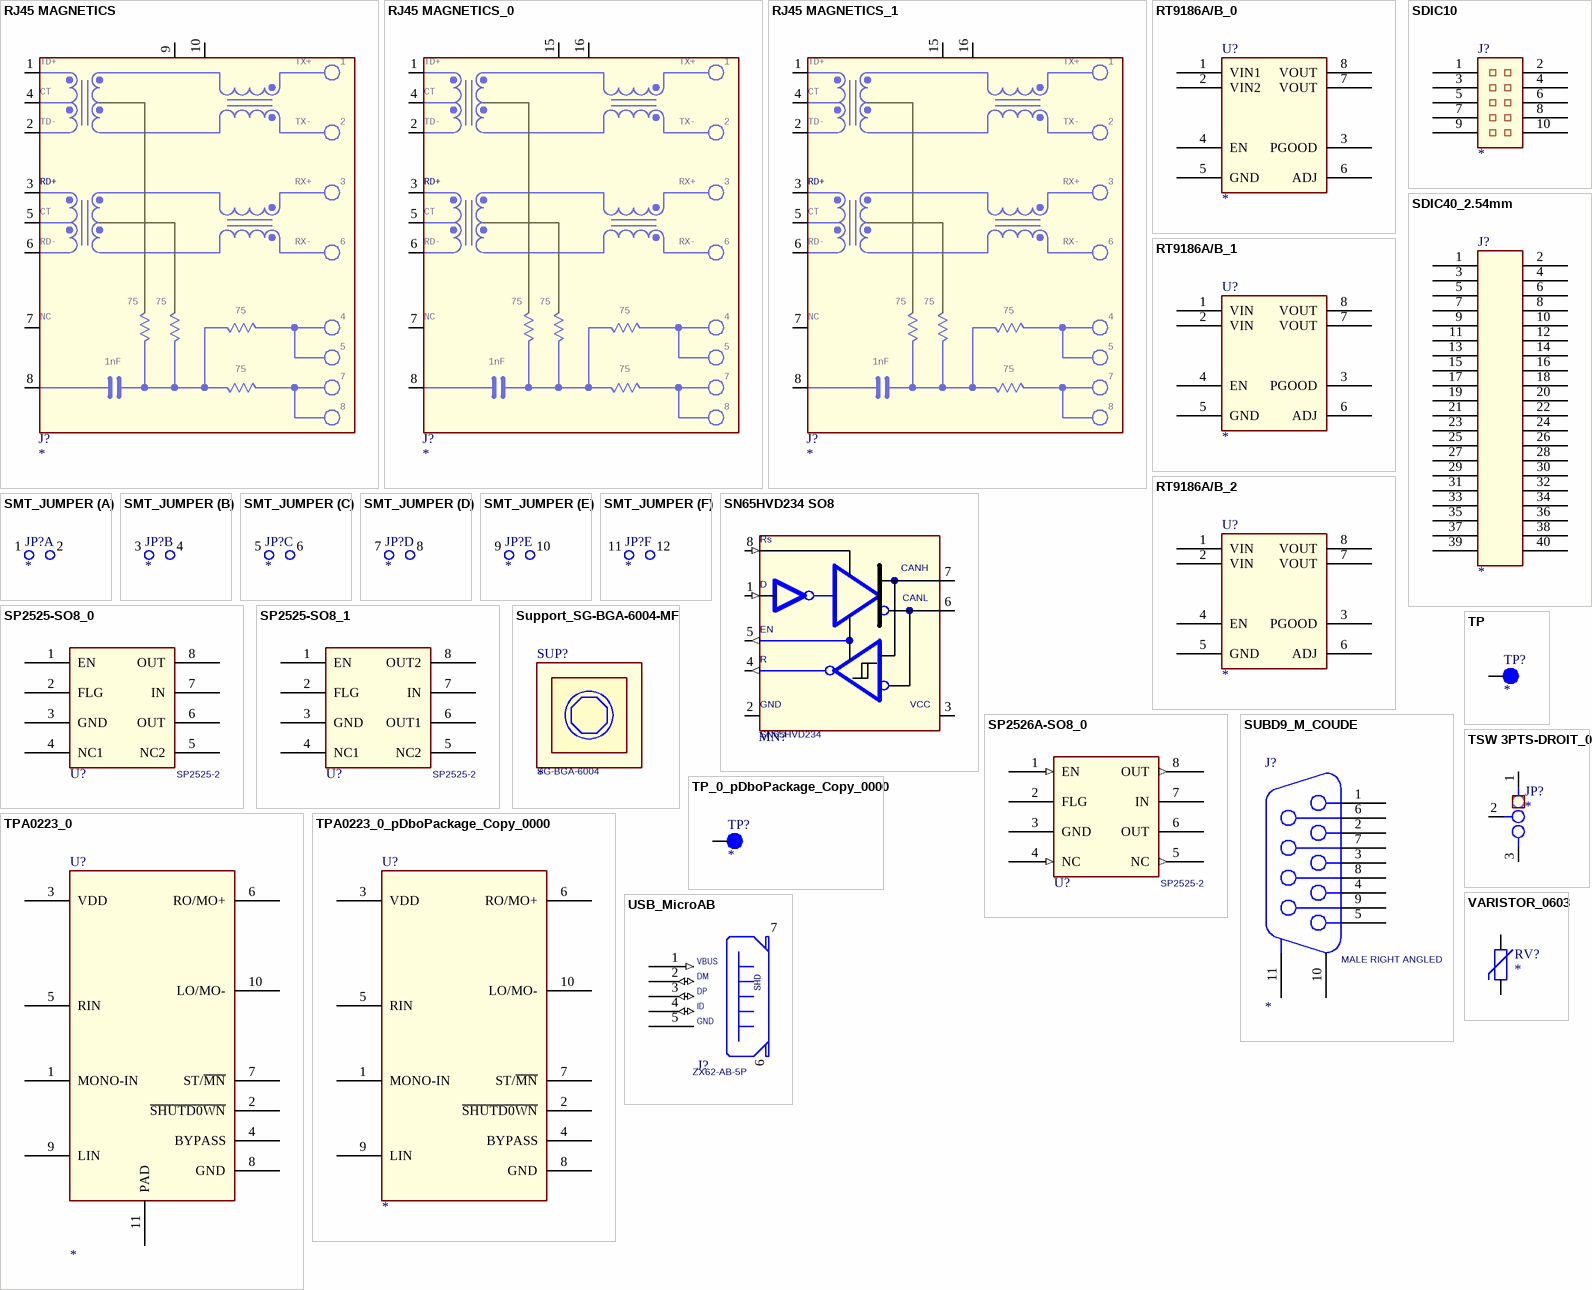
[diagram p5: symbols RJ45 MAGNETICS to VARISTOR_0603]

## RJ45 MAGNETICS
designator J?
DESIG: 10/100 Base-TX RJ45 1x1 Tab-DOWN 8-pin Integrated Magnetics Connector.; BOI: RJ45; RoHS: YES
footprint RJ45_PULSE
pins: 1 P1, 2 P2, 3 P3, 4 P4, 5 P5, 6 P6, 7 P7, 8 P8, 9 P9, 10 P10
text: TD+; TX+; CT; TD-; TX-; RD+; RX+; RD-; RX-; 75; NC; 1nF

## RJ45 MAGNETICS_0
designator J?
DESIG: 10/100 Base-TX RJ45 1x1 Tab-DOWN 8-pin Integrated Magnetics Connector.; BOI: RJ45; DEV: CON_PULSE_J00-61; RoHS: YES
footprint RJ45_PULSE
pins: 1 P1, 2 P2, 3 P3, 4 P4, 5 P5, 6 P6, 7 P7, 8 P8, 15 P15, 16 P16
text: TD+; TX+; CT; TD-; TX-; RD+; RX+; RD-; RX-; 75; NC; 1nF

## RJ45 MAGNETICS_1
designator J?
DESIG: 10/100 Base-TX RJ45 1x1 Tab-DOWN 8-pin Integrated Magnetics Connector.; BOI: RJ45; RoHS: YES
footprint RJ45_PULSE
pins: 1 P1, 2 P2, 3 P3, 4 P4, 5 P5, 6 P6, 7 P7, 8 P8, 15 P15, 16 P16
text: TD+; TX+; CT; TD-; TX-; RD+; RX+; RD-; RX-; 75; NC; 1nF

## RT9186A/B_0
designator U?
pins: 1 VIN1, 2 VIN2, 3 PGOOD, 4 EN, 5 GND, 6 ADJ, 7 VOUT, 8 VOUT

## RT9186A/B_1
designator U?
pins: 1 VIN (power), 2 VIN (power), 3 PGOOD, 4 EN, 5 GND, 6 ADJ, 7 VOUT (power), 8 VOUT

## RT9186A/B_2
designator U?
pins: 1 VIN (power), 2 VIN (power), 3 PGOOD, 4 EN, 5 GND, 6 ADJ, 7 VOUT (power), 8 VOUT (power)

## SDIC10
designator J?
pins: 1, 2, 3, 4, 5, 6, 7, 8, 9, 10

## SDIC40_2.54mm
designator J?
pins: 1, 2, 3, 4, 5, 6, 7, 8, 9, 10, 11, 12, 13, 14, 15, 16, 17, 18, 19, 20, 21, 22, 23, 24, 25, 26, 27, 28, 29, 30, 31, 32, 33, 34, 35, 36, 37, 38, 39, 40

## SMT_JUMPER
designator JP?
part A pins: 1, 2
part B pins: 3, 4
part C pins: 5, 6
part D pins: 7, 8
part E pins: 9, 10
part F pins: 11, 12

## SN65HVD234 SO8
designator MN?, comment SN65HVD234
FAB: TI; DEV: SO08; BOI: SO8; DESIG: 3.3V CAN TRANCEIVER; REF: SN65HVD234D; VAL: SN65HVD234
footprint SO08
pins: 1 TXD (in), 2 GND (power), 3 VCC (power), 4 RXD (out), 5 VREF (out), 6 CANL, 7 CANH, 8 RS (in)
text: Rs; D; EN; R

## SP2525-SO8_0
designator U?, comment SP2525-2
pins: 1 EN, 2 FLG, 3 GND, 4 NC1, 5 NC2, 6 OUT, 7 IN (power), 8 OUT

## SP2525-SO8_1
designator U?, comment SP2525-2
pins: 1 EN, 2 FLG, 3 GND, 4 NC1, 5 NC2, 6 OUT1, 7 IN (power), 8 OUT2

## SP2526A-SO8_0
designator U?, comment SP2525-2
pins: 1 EN (in), 2 FLG (oc), 3 GND (oc), 4 NC (in), 5 NC (out), 6 OUT (power), 7 IN (power), 8 OUT (out)

## SUBD9_M_COUDE
designator J?  VAL: MALE RIGHT ANGLED
DESIG: D-SUB 9  RIGHT ANGLED MALE; FAB: FCI; BOI: D-SUB MALE RIGHT ANGLED + HARPOONS + UNC; REF: D09P13A4GX00; DEV: SUBD9M_H_C
pins: 1, 2, 3, 4, 5, 6, 7, 8, 9, 10 M1, 11 M2

## Support_SG-BGA-6004-MF
designator SUP?  VAL: SG-BGA-6004
FAB: Ironwood Electronics; BOI: Voir Specif. Techniq; DESIG: BGA Sockets-0.8mm; REF: SG-BGA-6004-MF

## TP
designator TP?
pins: 1 TP

## TP_0_pDboPackage_Copy_0000
designator TP?
pins: 1 TP

## TPA0223_0
designator U?
pins: 1 MONO-IN, 2 ~{SHUTD0WN}, 3 VDD, 4 BYPASS, 5 RIN, 6 RO/MO+, 7 ST/~{MN}, 8 GND, 9 LIN, 10 LO/MO-, 11 PAD

## TPA0223_0_pDboPackage_Copy_0000
designator U?
pins: 1 MONO-IN, 2 ~{SHUTD0WN}, 3 VDD, 4 BYPASS, 5 RIN, 6 RO/MO+, 7 ST/~{MN}, 8 GND, 9 LIN, 10 LO/MO-

## TSW 3PTS-DROIT_0
designator JP?
DEV: JMT_TSW-3PTS_01; DESIG: Single Row Terminal Strips; REF: TSW-103-07-L-S; BOI: TSW; FAB: SAMTEC; RoHS: YES; VAL: TSW-103-07-L-S
pins: 1, 2, 3

## USB_MicroAB
designator J?, comment ZX62-AB-5P
footprint usb_micro_ab
pins: 1 VBUS (in), 2 DM (io), 3 DP (io), 4 ID (io), 5 GND (power), 6 SH1, 7 SH2
text: SHD

## VARISTOR_0603
designator RV?
REF: V5.5MLA0603N; VAL: V5.5MLA0603; DESIG: transient voltage surge suppression devices; FAB: LITTELFUSE
footprint R0603
pins: 1, 2

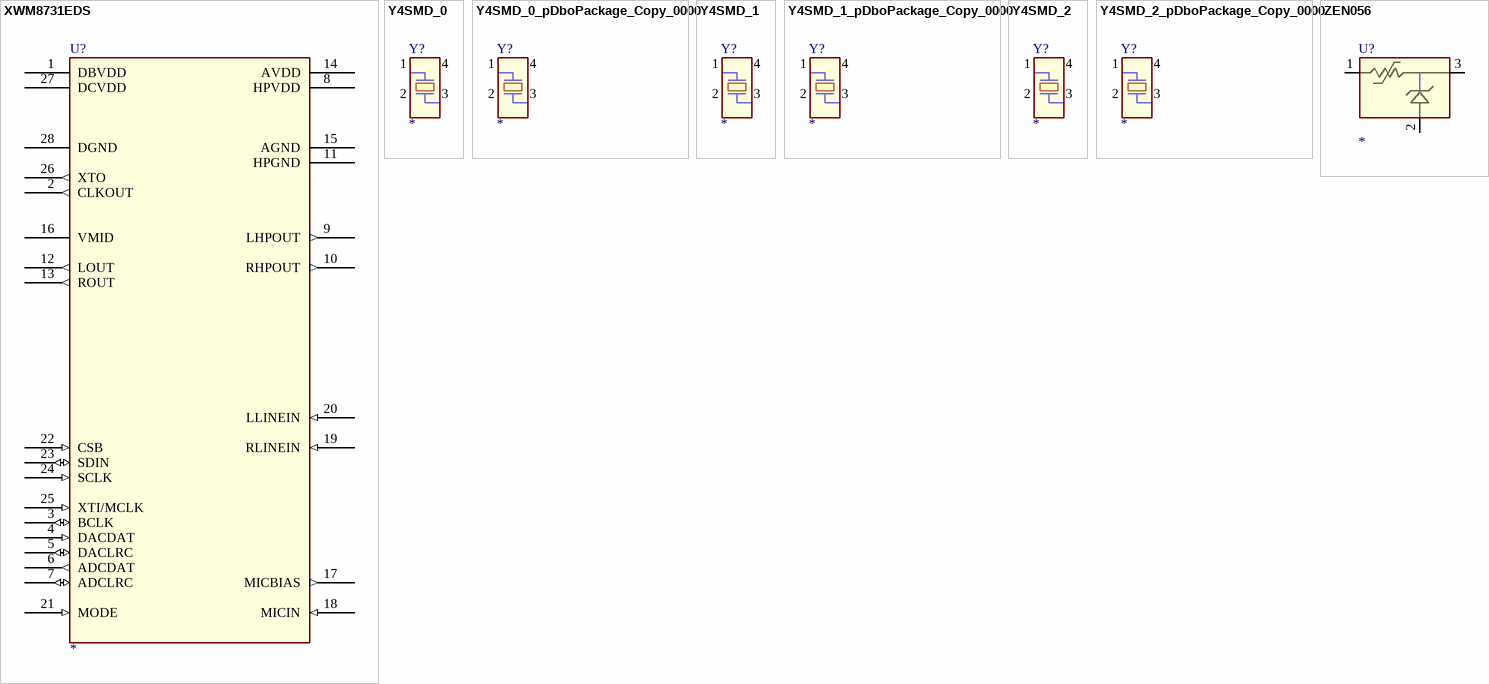
[diagram p6: symbols XWM8731EDS to ZEN056]

## XWM8731EDS
designator U?
pins: 1 DBVDD (power), 2 CLKOUT (out), 3 BCLK (io), 4 DACDAT (in), 5 DACLRC (io), 6 ADCDAT (out), 7 ADCLRC (io), 8 HPVDD, 9 LHPOUT (out), 10 RHPOUT (out), 11 HPGND, 12 LOUT (out), 13 ROUT (out), 14 AVDD (power), 15 AGND, 16 VMID, 17 MICBIAS (out), 18 MICIN (in), 19 RLINEIN (in), 20 LLINEIN (in), 21 MODE (in), 22 CSB (in), 23 SDIN (io), 24 SCLK (in), 25 XTI/MCLK (in), 26 XTO (out), 27 DCVDD (power), 28 DGND

## Y4SMD_0
designator Y?
footprint Y6035
pins: 1, 2, 3, 4

## Y4SMD_0_pDboPackage_Copy_0000
designator Y?
footprint Y6035
pins: 1, 2, 3, 4

## Y4SMD_1
designator Y?
footprint Y6035
pins: 1, 2, 3, 4

## Y4SMD_1_pDboPackage_Copy_0000
designator Y?
footprint Y6035
pins: 1, 2, 3, 4

## Y4SMD_2
designator Y?
footprint Y6035
pins: 1, 2, 3, 4

## Y4SMD_2_pDboPackage_Copy_0000
designator Y?
footprint Y6035
pins: 1, 2, 3, 4

## ZEN056
designator U?
pins: 1 VIN, 2 GND, 3 VOUT